# Altium footprint library SiLPA.PcbLib: 15 footprints
Each footprint in its own frame and in the unit in brackets; x right, y up, seen from the top. Pads: shape width x height; smd on the part's side, far side on the other; paste and mask are expansions set on the pad; w line width, h text height; cw(c..) or ccw(c..) is an arc to the next point about the centre after c.
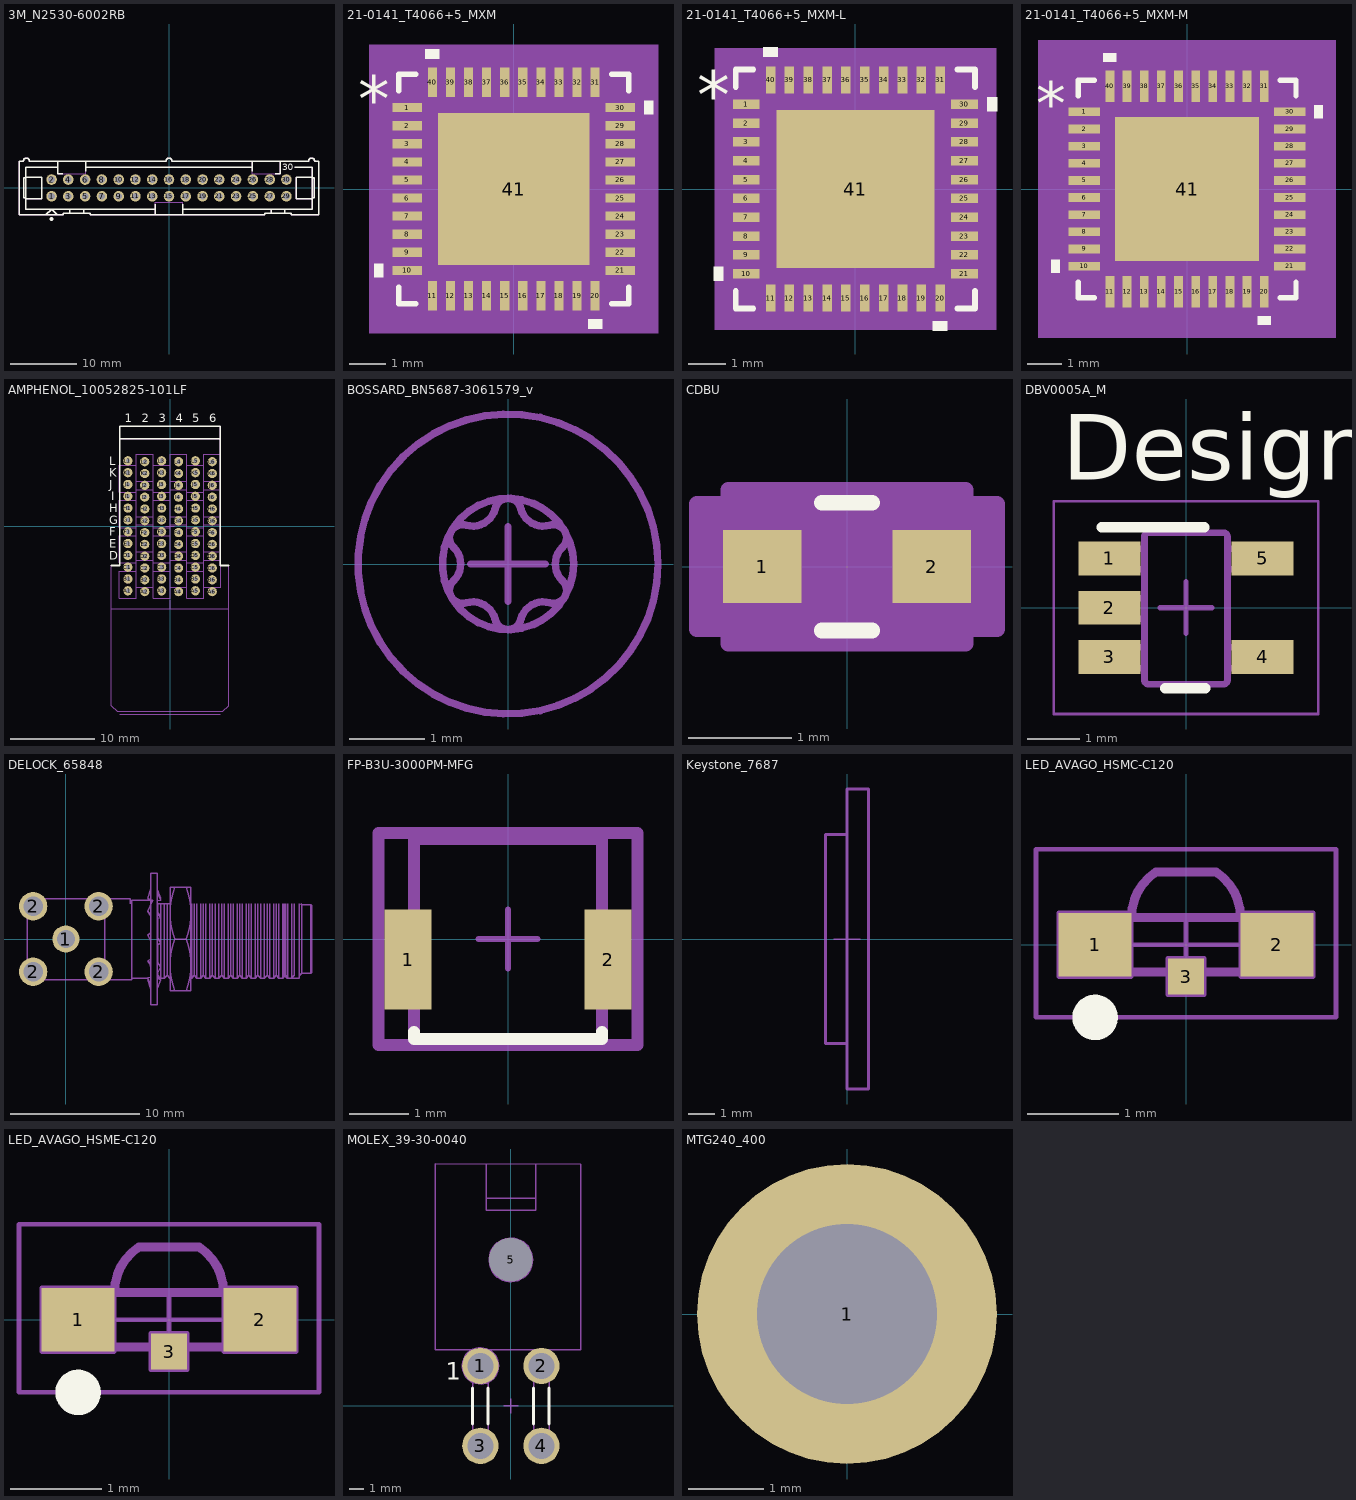
[diagram p0: the footprints below, top view; thin cyan lines are the x and y axes]

## 3M_N2530-6002RB [mm]
pads (30):
  round 1.6 hole 1: 1(-17.78,-1.27) 2(-17.78,1.27) 3(-15.24,-1.27) 4(-15.24,1.27) 5(-12.7,-1.27) 6(-12.7,1.27) 7(-10.16,-1.27) 8(-10.16,1.27) 9(-7.62,-1.27) 10(-7.62,1.27) 11(-5.08,-1.27) 12(-5.08,1.27) 13(-2.54,-1.27) 14(-2.54,1.27) 15(0,-1.27) 16(0,1.27) 17(2.54,-1.27) 18(2.54,1.27) 19(5.08,-1.27) 20(5.08,1.27) 21(7.62,-1.27) 22(7.62,1.27) 23(10.16,-1.27) 24(10.16,1.27) 25(12.7,-1.27) 26(12.7,1.27) 27(15.24,-1.27) 28(15.24,1.27) 29(17.78,-1.27) 30(17.78,1.27)
Top Overlay:
  circle w0.3: c-17.78,-4.699 r0.15
  lines w0.2: -21.692,-1.603 -19.279,-1.603 -19.279,1.603 -21.692,1.603 ; -21.692,-1.524 -21.996,-1.524 -21.996,1.524 -21.692,1.524 ; -18.644,-4.064 -17.78,-3.2 -16.916,-4.064 ; -16.828,3.15 -21.692,3.15 -21.692,-3.2 -2.096,-3.2 ; -16.828,4.064 -16.828,2.159 -16.119,2.159 ; -15.011,-3.835 -15.011,-3.2 ; -12.929,-3.835 -12.929,-3.2 ; -12.637,2.518 -12.637,4.064 ; -12.637,3.15 12.637,3.15 ; -2.096,-4.064 -2.096,-2.438 ; 2.095,-4.064 2.095,-2.438 ; 2.095,-3.2 21.692,-3.2 21.692,3.15 19.05,3.15 ; 12.637,2.518 12.637,4.064 ; 15.469,-3.835 15.469,-3.2 ; 16.119,2.159 16.828,2.159 16.828,4.064 ; 17.551,-3.835 17.551,-3.2 ; 21.692,-1.603 19.279,-1.603 19.279,1.603 21.692,1.603 ; 21.692,-1.524 21.996,-1.524 21.996,1.524 21.692,1.524 ; -22.708,-4.064 -22.708,4.064 -22.047,4.064 cw(c-21.59,4.064) -21.133,4.064 -0.457,4.064 cw(c0,4.064) 0.457,4.064 21.133,4.064 cw(c21.59,4.064) 22.047,4.064 22.708,4.064 22.708,-4.064 18.542,-4.064 18.542,-3.835 14.478,-3.835 14.478,-4.064 -11.938,-4.064 -11.938,-3.835 -16.002,-3.835 -16.002,-4.064 -22.708,-4.064
  text "30" at 17.145,2.667 h1.02
Mechanical 14:
  lines w0.1: -21.692,-1.603 -19.279,-1.603 -19.279,1.603 -21.692,1.603 ; -21.692,-1.524 -21.996,-1.524 -21.996,1.524 -21.692,1.524 ; -18.644,-4.064 -17.78,-3.2 -16.916,-4.064 ; -16.828,3.15 -21.692,3.15 -21.692,-3.2 -2.096,-3.2 ; -16.828,4.064 -16.828,2.159 -12.637,2.159 -12.637,4.064 ; -15.011,-3.835 -15.011,-3.2 ; -12.929,-3.835 -12.929,-3.2 ; -12.637,3.15 12.637,3.15 ; -2.096,-4.064 -2.096,-2.159 2.095,-2.159 2.095,-4.064 ; 2.095,-3.2 21.692,-3.2 21.692,3.15 19.05,3.15 ; 12.637,4.064 12.637,2.159 16.828,2.159 16.828,4.064 ; 15.469,-3.835 15.469,-3.2 ; 17.551,-3.835 17.551,-3.2 ; 21.692,-1.603 19.279,-1.603 19.279,1.603 21.692,1.603 ; 21.692,-1.524 21.996,-1.524 21.996,1.524 21.692,1.524 ; -22.708,-4.064 -22.708,4.064 -22.047,4.064 cw(c-21.59,4.064) -21.133,4.064 -0.457,4.064 cw(c0,4.064) 0.457,4.064 21.133,4.064 cw(c21.59,4.064) 22.047,4.064 22.708,4.064 22.708,-4.064 18.542,-4.064 18.542,-3.835 14.478,-3.835 14.478,-4.064 -11.938,-4.064 -11.938,-3.835 -16.002,-3.835 -16.002,-4.064 -22.708,-4.064
  text "30" at 17.145,2.667 h1.02
3D body "3M_N2530-6002RB.stp": height 9.91, standoff -2.84, extent -22.707,-4.115 22.708,4.521

## 21-0141_T4066+5_MXM [mil]
pads (41):
  rect 32x10 smd paste+0 mask+0: 1(-116,88.58) 2(-116,68.9) 3(-116,49.21) 4(-116,29.53) 5(-116,9.84) 6(-116,-9.84) 7(-116,-29.53) 8(-116,-49.21) 9(-116,-68.9) 10(-116,-88.58) 21(116,-88.58) 22(116,-68.9) 23(116,-49.21) 24(116,-29.53) 25(116,-9.84) 26(116,9.84) 27(116,29.53) 28(116,49.21) 29(116,68.9) 30(116,88.58)
  rect 10x32 smd paste+0 mask+0: 11(-88.58,-116) 12(-68.9,-116) 13(-49.21,-116) 14(-29.53,-116) 15(-9.84,-116) 16(9.84,-116) 17(29.53,-116) 18(49.21,-116) 19(68.9,-116) 20(88.58,-116) 31(88.58,116) 32(68.9,116) 33(49.21,116) 34(29.53,116) 35(9.84,116) 36(-9.84,116) 37(-29.53,116) 38(-49.21,116) 39(-68.9,116) 40(-88.58,116)
  rect 165x165 smd paste-82 mask+0: 41(0,0)
Top Overlay:
  region: -142,-81.08 -152,-81.08 -152,-96.08 -142,-96.08
  region: 96.08,-142 81.08,-142 81.08,-152 96.08,-152
  region: 142,96.08 152,96.08 152,81.08 142,81.08
  region: -81.08,142 -96.08,142 -96.08,152 -81.08,152
  lines w6: -125,-106.68 -125,-125 -106.68,-125 ; -125,106.68 -125,125 -106.68,125 ; 106.68,-125 125,-125 125,-106.68 ; 106.68,125 125,125 125,106.68
  text "*" at -169.5,73.43 h50
Top Paste:
  region: -31.44,78.56 -78.56,78.56 -78.56,31.44 -31.44,31.44
  region: -31.44,23.56 -78.56,23.56 -78.56,-23.56 -31.44,-23.56
  region: -31.44,-31.44 -78.56,-31.44 -78.56,-78.56 -31.44,-78.56
  region: 23.56,78.56 -23.56,78.56 -23.56,31.44 23.56,31.44
  region: 23.56,23.56 -23.56,23.56 -23.56,-23.56 23.56,-23.56
  region: 23.56,-31.44 -23.56,-31.44 -23.56,-78.56 23.56,-78.56
  region: 78.56,78.56 31.44,78.56 31.44,31.44 78.56,31.44
  region: 78.56,23.56 31.44,23.56 31.44,-23.56 78.56,-23.56
  region: 78.56,-31.44 31.44,-31.44 31.44,-78.56 78.56,-78.56
Mechanical 5:
  region: 157,-157 -157,-157 -157,157 157,157
Mechanical 13:
  lines w1: -120,70 -70,120 ; -120,-120 120,-120 120,120 -120,120 -120,-120 ; -120,-94.58 -120,-82.58 -120,-94.58 ; -120,-74.9 -120,-62.9 -120,-74.9 ; -120,-55.21 -120,-43.21 -120,-55.21 ; -120,-35.53 -120,-23.53 -120,-35.53 ; -120,-15.84 -120,-3.84 -120,-15.84 ; -120,3.84 -120,15.84 -120,3.84 ; -120,23.53 -120,35.53 -120,23.53 ; -120,43.21 -120,55.21 -120,43.21 ; -120,62.9 -120,74.9 -120,62.9 ; -120,82.58 -120,94.58 -120,82.58 ; -94.58,-120 -82.58,-120 -94.58,-120 ; -94.58,120 -82.58,120 -94.58,120 ; -74.9,-120 -62.9,-120 -74.9,-120 ; -74.9,120 -62.9,120 -74.9,120 ; -55.21,-120 -43.21,-120 -55.21,-120 ; -55.21,120 -43.21,120 -55.21,120 ; -35.53,-120 -23.53,-120 -35.53,-120 ; -35.53,120 -23.53,120 -35.53,120 ; -15.84,-120 -3.84,-120 -15.84,-120 ; -15.84,120 -3.84,120 -15.84,120 ; 3.84,-120 15.84,-120 3.84,-120 ; 3.84,120 15.84,120 3.84,120 ; 23.53,-120 35.53,-120 23.53,-120 ; 23.53,120 35.53,120 23.53,120 ; 43.21,-120 55.21,-120 43.21,-120 ; 43.21,120 55.21,120 43.21,120 ; 62.9,-120 74.9,-120 62.9,-120 ; 62.9,120 74.9,120 62.9,120 ; 82.58,-120 94.58,-120 82.58,-120 ; 82.58,120 94.58,120 82.58,120 ; 120,-94.58 120,-82.58 120,-94.58 ; 120,-74.9 120,-62.9 120,-74.9 ; 120,-55.21 120,-43.21 120,-55.21 ; 120,-35.53 120,-23.53 120,-35.53 ; 120,-15.84 120,-3.84 120,-15.84 ; 120,3.84 120,15.84 120,3.84 ; 120,23.53 120,35.53 120,23.53 ; 120,43.21 120,55.21 120,43.21 ; 120,62.9 120,74.9 120,62.9 ; 120,82.58 120,94.58 120,82.58
  text "*" at -112.5,73.43 h50
Mechanical 15:
  region: -103.58,-130 -130,-130 -130,-103.58 -142,-103.58 -142,103.58 -130,103.58 -130,130 -103.58,130 -103.58,142 103.58,142 103.58,130 130,130 130,103.58 142,103.58 142,-103.58 130,-103.58 130,-130 103.58,-130 103.58,-142 -103.58,-142
  lines w6: -142,-103.58 -130,-103.58 -130,-130 -103.58,-130 -103.58,-142 103.58,-142 103.58,-130 130,-130 130,-103.58 142,-103.58 142,103.58 130,103.58 130,130 103.58,130 103.58,142 -103.58,142 -103.58,130 -130,130 -130,103.58 -142,103.58 -142,-103.58
3D body "21-0141_T4066+5_MXM.step": height 32.09, standoff 0, extent -120,-120 120,120
3D body "21-0141_T4066+5_MXM.step": height 32.09, standoff 0, extent -120,-120 120,120

## 21-0141_T4066+5_MXM-L [mil]
pads (41):
  rect 28x10 smd paste+0 mask+0: 1(-114,88.58) 2(-114,68.9) 3(-114,49.21) 4(-114,29.53) 5(-114,9.84) 6(-114,-9.84) 7(-114,-29.53) 8(-114,-49.21) 9(-114,-68.9) 10(-114,-88.58) 21(114,-88.58) 22(114,-68.9) 23(114,-49.21) 24(114,-29.53) 25(114,-9.84) 26(114,9.84) 27(114,29.53) 28(114,49.21) 29(114,68.9) 30(114,88.58)
  rect 10x28 smd paste+0 mask+0: 11(-88.58,-114) 12(-68.9,-114) 13(-49.21,-114) 14(-29.53,-114) 15(-9.84,-114) 16(9.84,-114) 17(29.53,-114) 18(49.21,-114) 19(68.9,-114) 20(88.58,-114) 31(88.58,114) 32(68.9,114) 33(49.21,114) 34(29.53,114) 35(9.84,114) 36(-9.84,114) 37(-29.53,114) 38(-49.21,114) 39(-68.9,114) 40(-88.58,114)
  rect 165x165 smd paste-82 mask+0: 41(0,0)
Top Overlay:
  region: -81.08,138 -96.08,138 -96.08,148 -81.08,148
  region: 138,96.08 148,96.08 148,81.08 138,81.08
  region: 96.08,-138 81.08,-138 81.08,-148 96.08,-148
  region: -138,-81.08 -148,-81.08 -148,-96.08 -138,-96.08
  lines w6: -125,-106.68 -125,-125 -106.68,-125 ; -125,106.68 -125,125 -106.68,125 ; 106.68,-125 125,-125 125,-106.68 ; 106.68,125 125,125 125,106.68
  text "*" at -165.5,73.43 h50
Top Paste:
  region: 78.56,-31.44 31.44,-31.44 31.44,-78.56 78.56,-78.56
  region: 78.56,23.56 31.44,23.56 31.44,-23.56 78.56,-23.56
  region: 78.56,78.56 31.44,78.56 31.44,31.44 78.56,31.44
  region: 23.56,-31.44 -23.56,-31.44 -23.56,-78.56 23.56,-78.56
  region: 23.56,23.56 -23.56,23.56 -23.56,-23.56 23.56,-23.56
  region: 23.56,78.56 -23.56,78.56 -23.56,31.44 23.56,31.44
  region: -31.44,-31.44 -78.56,-31.44 -78.56,-78.56 -31.44,-78.56
  region: -31.44,23.56 -78.56,23.56 -78.56,-23.56 -31.44,-23.56
  region: -31.44,78.56 -78.56,78.56 -78.56,31.44 -31.44,31.44
Mechanical 5:
  region: 147,-147 -147,-147 -147,147 147,147
Mechanical 13:
  lines w1: -120,70 -70,120 ; -120,-120 -120,120 120,120 120,-120 -120,-120 ; -120,-94.58 -120,-82.58 -120,-94.58 ; -120,-74.9 -120,-62.9 -120,-74.9 ; -120,-55.21 -120,-43.21 -120,-55.21 ; -120,-35.53 -120,-23.53 -120,-35.53 ; -120,-15.84 -120,-3.84 -120,-15.84 ; -120,3.84 -120,15.84 -120,3.84 ; -120,23.53 -120,35.53 -120,23.53 ; -120,43.21 -120,55.21 -120,43.21 ; -120,62.9 -120,74.9 -120,62.9 ; -120,82.58 -120,94.58 -120,82.58 ; -94.58,-120 -82.58,-120 -94.58,-120 ; -94.58,120 -82.58,120 -94.58,120 ; -74.9,-120 -62.9,-120 -74.9,-120 ; -74.9,120 -62.9,120 -74.9,120 ; -55.21,-120 -43.21,-120 -55.21,-120 ; -55.21,120 -43.21,120 -55.21,120 ; -35.53,-120 -23.53,-120 -35.53,-120 ; -35.53,120 -23.53,120 -35.53,120 ; -15.84,-120 -3.84,-120 -15.84,-120 ; -15.84,120 -3.84,120 -15.84,120 ; 3.84,-120 15.84,-120 3.84,-120 ; 3.84,120 15.84,120 3.84,120 ; 23.53,-120 35.53,-120 23.53,-120 ; 23.53,120 35.53,120 23.53,120 ; 43.21,-120 55.21,-120 43.21,-120 ; 43.21,120 55.21,120 43.21,120 ; 62.9,-120 74.9,-120 62.9,-120 ; 62.9,120 74.9,120 62.9,120 ; 82.58,-120 94.58,-120 82.58,-120 ; 82.58,120 94.58,120 82.58,120 ; 120,-94.58 120,-82.58 120,-94.58 ; 120,-74.9 120,-62.9 120,-74.9 ; 120,-55.21 120,-43.21 120,-55.21 ; 120,-35.53 120,-23.53 120,-35.53 ; 120,-15.84 120,-3.84 120,-15.84 ; 120,3.84 120,15.84 120,3.84 ; 120,23.53 120,35.53 120,23.53 ; 120,43.21 120,55.21 120,43.21 ; 120,62.9 120,74.9 120,62.9 ; 120,82.58 120,94.58 120,82.58
  text "*" at -112.5,73.43 h50
Mechanical 15:
  region: -97.58,-124 -124,-124 -124,-97.58 -132,-97.58 -132,97.58 -124,97.58 -124,124 -97.58,124 -97.58,132 97.58,132 97.58,124 124,124 124,97.58 132,97.58 132,-97.58 124,-97.58 124,-124 97.58,-124 97.58,-132 -97.58,-132
  lines w6: -132,-97.58 -132,97.58 -124,97.58 -124,124 -97.58,124 -97.58,132 97.58,132 97.58,124 124,124 124,97.58 132,97.58 132,-97.58 124,-97.58 124,-124 97.58,-124 97.58,-132 -97.58,-132 -97.58,-124 -124,-124 -124,-97.58 -132,-97.58
3D body "21-0141_T4066+5_MXM.step": height 32.09, standoff 0, extent -120,-120 120,120

## 21-0141_T4066+5_MXM-M [mil]
pads (41):
  rect 36x10 smd paste+0 mask+0: 1(-118,88.58) 2(-118,68.9) 3(-118,49.21) 4(-118,29.53) 5(-118,9.84) 6(-118,-9.84) 7(-118,-29.53) 8(-118,-49.21) 9(-118,-68.9) 10(-118,-88.58) 21(118,-88.58) 22(118,-68.9) 23(118,-49.21) 24(118,-29.53) 25(118,-9.84) 26(118,9.84) 27(118,29.53) 28(118,49.21) 29(118,68.9) 30(118,88.58)
  rect 10x36 smd paste+0 mask+0: 11(-88.58,-118) 12(-68.9,-118) 13(-49.21,-118) 14(-29.53,-118) 15(-9.84,-118) 16(9.84,-118) 17(29.53,-118) 18(49.21,-118) 19(68.9,-118) 20(88.58,-118) 31(88.58,118) 32(68.9,118) 33(49.21,118) 34(29.53,118) 35(9.84,118) 36(-9.84,118) 37(-29.53,118) 38(-49.21,118) 39(-68.9,118) 40(-88.58,118)
  rect 165x165 smd paste-82 mask+0: 41(0,0)
Top Overlay:
  region: -81.08,146 -96.08,146 -96.08,156 -81.08,156
  region: 146,96.08 156,96.08 156,81.08 146,81.08
  region: 96.08,-146 81.08,-146 81.08,-156 96.08,-156
  region: -146,-81.08 -156,-81.08 -156,-96.08 -146,-96.08
  lines w6: -125,-106.68 -125,-125 -106.68,-125 ; -125,106.68 -125,125 -106.68,125 ; 106.68,-125 125,-125 125,-106.68 ; 106.68,125 125,125 125,106.68
  text "*" at -173.5,73.43 h50
Top Paste:
  region: 78.56,-31.44 31.44,-31.44 31.44,-78.56 78.56,-78.56
  region: 78.56,23.56 31.44,23.56 31.44,-23.56 78.56,-23.56
  region: 78.56,78.56 31.44,78.56 31.44,31.44 78.56,31.44
  region: 23.56,-31.44 -23.56,-31.44 -23.56,-78.56 23.56,-78.56
  region: 23.56,23.56 -23.56,23.56 -23.56,-23.56 23.56,-23.56
  region: 23.56,78.56 -23.56,78.56 -23.56,31.44 23.56,31.44
  region: -31.44,-31.44 -78.56,-31.44 -78.56,-78.56 -31.44,-78.56
  region: -31.44,23.56 -78.56,23.56 -78.56,-23.56 -31.44,-23.56
  region: -31.44,78.56 -78.56,78.56 -78.56,31.44 -31.44,31.44
Mechanical 5:
  region: 171,-171 -171,-171 -171,171 171,171
Mechanical 13:
  lines w1: -120,70 -70,120 ; -120,-120 -120,120 120,120 120,-120 -120,-120 ; -120,-94.58 -120,-82.58 -120,-94.58 ; -120,-74.9 -120,-62.9 -120,-74.9 ; -120,-55.21 -120,-43.21 -120,-55.21 ; -120,-35.53 -120,-23.53 -120,-35.53 ; -120,-15.84 -120,-3.84 -120,-15.84 ; -120,3.84 -120,15.84 -120,3.84 ; -120,23.53 -120,35.53 -120,23.53 ; -120,43.21 -120,55.21 -120,43.21 ; -120,62.9 -120,74.9 -120,62.9 ; -120,82.58 -120,94.58 -120,82.58 ; -94.58,-120 -82.58,-120 -94.58,-120 ; -94.58,120 -82.58,120 -94.58,120 ; -74.9,-120 -62.9,-120 -74.9,-120 ; -74.9,120 -62.9,120 -74.9,120 ; -55.21,-120 -43.21,-120 -55.21,-120 ; -55.21,120 -43.21,120 -55.21,120 ; -35.53,-120 -23.53,-120 -35.53,-120 ; -35.53,120 -23.53,120 -35.53,120 ; -15.84,-120 -3.84,-120 -15.84,-120 ; -15.84,120 -3.84,120 -15.84,120 ; 3.84,-120 15.84,-120 3.84,-120 ; 3.84,120 15.84,120 3.84,120 ; 23.53,-120 35.53,-120 23.53,-120 ; 23.53,120 35.53,120 23.53,120 ; 43.21,-120 55.21,-120 43.21,-120 ; 43.21,120 55.21,120 43.21,120 ; 62.9,-120 74.9,-120 62.9,-120 ; 62.9,120 74.9,120 62.9,120 ; 82.58,-120 94.58,-120 82.58,-120 ; 82.58,120 94.58,120 82.58,120 ; 120,-94.58 120,-82.58 120,-94.58 ; 120,-74.9 120,-62.9 120,-74.9 ; 120,-55.21 120,-43.21 120,-55.21 ; 120,-35.53 120,-23.53 120,-35.53 ; 120,-15.84 120,-3.84 120,-15.84 ; 120,3.84 120,15.84 120,3.84 ; 120,23.53 120,35.53 120,23.53 ; 120,43.21 120,55.21 120,43.21 ; 120,62.9 120,74.9 120,62.9 ; 120,82.58 120,94.58 120,82.58
  text "*" at -112.5,73.43 h50
Mechanical 15:
  region: -113.58,-140 -140,-140 -140,-113.58 -156,-113.58 -156,113.58 -140,113.58 -140,140 -113.58,140 -113.58,156 113.58,156 113.58,140 140,140 140,113.58 156,113.58 156,-113.58 140,-113.58 140,-140 113.58,-140 113.58,-156 -113.58,-156
  lines w6: -156,-113.58 -156,113.58 -140,113.58 -140,140 -113.58,140 -113.58,156 113.58,156 113.58,140 140,140 140,113.58 156,113.58 156,-113.58 140,-113.58 140,-140 113.58,-140 113.58,-156 -113.58,-156 -113.58,-140 -140,-140 -140,-113.58 -156,-113.58
3D body "21-0141_T4066+5_MXM.step": height 32.09, standoff 0, extent -120,-120 120,120

## AMPHENOL_10052825-101LF [mm]
pads (72):
  round 1.1 hole 0.5: A1(-5,-7.65) A2(-3,-7.75) A3(-1,-7.65) A4(1,-7.75) A5(3,-7.65) A6(5,-7.75) B1(-5,-6.25) B2(-3,-6.35) B3(-1,-6.25) B4(1,-6.35) B5(3,-6.25) B6(5,-6.35) C1(-5,-4.85) C2(-3,-4.95) C3(-1,-4.85) C4(1,-4.95) C5(3,-4.85) C6(5,-4.95) D1(-5,-3.45) D2(-3,-3.55) D3(-1,-3.45) D4(1,-3.55) D5(3,-3.45) D6(5,-3.55) E1(-5,-2.05) E2(-3,-2.15) E3(-1,-2.05) E4(1,-2.15) E5(3,-2.05) E6(5,-2.15) F1(-5,-0.65) F2(-3,-0.75) F3(-1,-0.65) F4(1,-0.75) F5(3,-0.65) F6(5,-0.75) G1(-5,0.75) G2(-3,0.65) G3(-1,0.75) G4(1,0.65) G5(3,0.75) G6(5,0.65) H1(-5,2.15) H2(-3,2.05) H3(-1,2.15) H4(1,2.05) H5(3,2.15) H6(5,2.05) I1(-5,3.55) I2(-3,3.45) I3(-1,3.55) I4(1,3.45) I5(3,3.55) I6(5,3.45) J1(-5,4.95) J2(-3,4.85) J3(-1,4.95) J4(1,4.85) J5(3,4.95) J6(5,4.85) K1(-5,6.35) K2(-3,6.25) K3(-1,6.35) K4(1,6.25) K5(3,6.35) K6(5,6.25) L1(-5,7.75) L2(-3,7.65) L3(-1,7.75) L4(1,7.65) L5(3,7.75) L6(5,7.65)
Top Overlay:
  lines w0.2: -6.95,-4.65 -5.95,-4.65 -5.95,11.85 5.95,11.85 5.95,-4.65 6.95,-4.65 ; -5.95,10.35 5.95,10.35
  text "6" at 4.65,12.3 h1
  text "5" at 2.65,12.3 h1
  text "4" at 0.65,12.3 h1
  text "3" at -1.35,12.3 h1
  text "2" at -3.35,12.3 h1
  text "1" at -5.35,12.3 h1
  text "L" at -7.2,7.25 h1
  text "K" at -7.2,5.85 h1
  text "J" at -7.2,4.45 h1
  text "I" at -6.95,3.05 h1
  text "H" at -7.2,1.65 h1
  text "G" at -7.2,0.25 h1
  text "F" at -7.2,-1.15 h1
  text "E" at -7.2,-2.55 h1
  text "D" at -7.2,-3.95 h1
Mechanical 8:
  drawing of 248 lines, arcs and shapes, not listed
  text "Edge of Daugher Card" at -3.225,-10.5 h0.5
  text "Top Surface of Mother Board" at -4.375,-22 h0.5
Mechanical 14:
  lines w0.1: -6.95,-9.75 -6.25,-9.75 ; -5.95,10.35 5.95,10.35 ; -5.75,-9.75 -5.25,-9.75 ; -4.75,-9.75 -4.25,-9.75 ; -3.75,-9.75 -3.25,-9.75 ; -2.75,-9.75 -2.25,-9.75 ; -1.75,-9.75 -1.25,-9.75 ; -0.75,-9.75 -0.25,-9.75 ; 0.25,-9.75 0.75,-9.75 ; 1.25,-9.75 1.75,-9.75 ; 2.25,-9.75 2.75,-9.75 ; 3.25,-9.75 3.75,-9.75 ; 4.25,-9.75 4.75,-9.75 ; 5.25,-9.75 5.75,-9.75 ; 6.25,-9.75 6.95,-9.75 ; -6.95,-21.25 -6.25,-21.95 6.25,-21.95 6.95,-21.25 6.95,-4.65 5.95,-4.65 5.95,11.85 -5.95,11.85 -5.95,-4.65 -6.95,-4.65 -6.95,-21.25
  text "6" at 4.65,12.3 h1
  text "5" at 2.65,12.3 h1
  text "4" at 0.65,12.3 h1
  text "3" at -1.35,12.3 h1
  text "2" at -3.35,12.3 h1
  text "1" at -5.35,12.3 h1
  text "L" at -7.2,7.25 h1
  text "K" at -7.2,5.85 h1
  text "J" at -7.2,4.45 h1
  text "I" at -6.95,3.05 h1
  text "H" at -7.2,1.65 h1
  text "G" at -7.2,0.25 h1
  text "F" at -7.2,-1.15 h1
  text "E" at -7.2,-2.55 h1
  text "D" at -7.2,-3.95 h1
  text "C" at -8.2,-5.35 h1
  text "B" at -8.2,-6.75 h1
  text "A" at -8.2,-8.15 h1
Drill Drawing:
  lines w0.1: -6,-8.75 -6,8.75 6,8.75 6,-8.75 -6,-8.75
  text "Diam. 0.5mm +/-0.05" at 9,-8.4 h1
  text "PRESS-FIT TECHNOLOGY" at 7.5,-8.4 h1
3D body "AMPHENOL_10052825-101LF.stp": height 15.25, standoff -4.45, extent -6.95,-21.95 6.95,11.85

## BOSSARD_BN5687-3061579_v [mm] "M2 L=4mm Hexalobular Socket Pan Head Screw, Fully Threaded - Stainless Steel A2"
height 5.6
Mechanical 8:
  lines w0.1: -0.5,0 0,0 ; 0,-0.5 0,0 ; 0,0.5 0,0 ; 0.5,0 0,0
Mechanical 14:
  circle w0.1: c0,0 r0.875
  circle w0.1: c0,0 r2
  lines w0.1: -0.726,-0.223 ccw(c-0.937,0) -0.726,0.223 cw(c-0.606,0.35) -0.556,0.518 ccw(c-0.468,0.811) -0.17,0.74 cw(c0,0.7) 0.17,0.74 ccw(c0.468,0.811) 0.556,0.518 cw(c0.606,0.35) 0.726,0.223 ccw(c0.937,0) 0.726,-0.223 cw(c0.606,-0.35) 0.556,-0.518 ccw(c0.468,-0.811) 0.17,-0.74 cw(c0,-0.7) -0.17,-0.74 ccw(c-0.468,-0.811) -0.556,-0.518 cw(c-0.606,-0.35) -0.726,-0.223
3D body "BOSSARD_BN5687-3061579_v.stp": height 1.6, standoff -4, extent -2,-2 2,2

## CDBU [mil]
pads (2):
  rect 30x28 smd paste+0 mask+0: 1(-32.5,0) 2(32.5,0)
Top Overlay:
  lines w6: -9.67,-24.5 9.67,-24.5 ; -9.67,24.5 9.67,24.5
Mechanical 13:
  lines w0: -12,19.5 ccw(c0,19.5) 12,19.5
  lines w1: -35.5,-19.5 -35.5,19.5 35.5,19.5 35.5,-19.5 -35.5,-19.5
Mechanical 15:
  region: -45.5,-24 -57.5,-24 -57.5,24 -45.5,24 -45.5,29.5 45.5,29.5 45.5,24 57.5,24 57.5,-24 45.5,-24 45.5,-29.5 -45.5,-29.5
  lines w6: -57.5,-24 -45.5,-24 -45.5,-29.5 45.5,-29.5 45.5,-24 57.5,-24 57.5,24 45.5,24 45.5,29.5 -45.5,29.5 -45.5,24 -57.5,24 -57.5,-24
3D body "CDBU.step": height 33.11, standoff 0, extent -35.51,-19.49 35.51,19.49

## DBV0005A_M [mm]
pads (5):
  rect 1.2x0.65 smd paste+0 mask+0.051: 1(-1.475,0.95) 2(-1.475,0) 3(-1.475,-0.95) 4(1.475,-0.95) 5(1.475,0.95)
Top Overlay:
  lines w0.2: -1.625,1.55 0.35,1.55 ; -0.4,-1.55 0.375,-1.55
  text "Designator9" at -2.388,2.464 h1.27
Mechanical 13:
  lines w0.127: -0.801,1.371 cw(c-0.725,1.37) -0.725,1.446 ; -0.801,1.37 -0.801,1.371 ; -0.801,1.37 -0.801,-1.399 -0.801,-1.4 ccw(c-0.725,-1.399) -0.725,-1.475 ; -0.725,-1.475 0.723,-1.475 0.724,-1.475 ccw(c0.723,-1.399) 0.799,-1.4 0.799,-1.399 0.799,1.37 ; -0.725,-1.475 -0.725,-1.475 ; -0.725,1.446 -0.725,1.446 ; -0.725,1.446 0.723,1.446 0.724,1.446 cw(c0.723,1.37) 0.799,1.371 ; 0.799,1.37 0.799,1.371 ; -1.423,-1.167 -1.423,-0.767 -1.199,-0.767 -1.105,-0.767 -1.088,-0.767 -0.835,-0.767 -0.801,-0.767 -0.801,-1.167 -0.835,-1.167 -1.088,-1.167 -1.105,-1.167 -1.199,-1.167 -1.423,-1.167 ; -1.423,-0.215 -1.423,0.186 -1.199,0.186 -1.105,0.186 -1.088,0.186 -0.835,0.186 -0.801,0.186 -0.801,-0.215 -0.835,-0.215 -1.088,-0.215 -1.105,-0.215 -1.199,-0.215 -1.423,-0.215 ; -1.423,0.738 -1.423,1.138 -1.199,1.138 -1.105,1.138 -1.088,1.138 -0.835,1.138 -0.801,1.138 -0.801,0.738 -0.835,0.738 -1.088,0.738 -1.105,0.738 -1.199,0.738 -1.423,0.738 ; 0.799,-1.167 0.834,-1.167 1.087,-1.167 1.103,-1.167 1.198,-1.167 1.422,-1.167 1.422,-0.767 1.198,-0.767 1.103,-0.767 1.087,-0.767 0.834,-0.767 0.799,-0.767 0.799,-1.167 ; 0.799,0.738 0.834,0.738 1.087,0.738 1.103,0.738 1.198,0.738 1.422,0.738 1.422,1.138 1.198,1.138 1.103,1.138 1.087,1.138 0.834,1.138 0.799,1.138 0.799,0.738
Mechanical 15:
  lines w0.05: -2.55,-2.05 2.55,-2.05 2.55,2.05 -2.55,2.05 -2.55,-2.05
  lines w0.1: -0.5,0 0.5,0 ; 0,-0.5 0,0.5
3D body "DBV0005A.stp": height 1.2, standoff 0, extent -1.4,-1.45 1.4,1.45

## DELOCK_65848 [mm]
pads (5):
  round 2.1 hole 1.4: 1(0,0)
  round 2.2 hole 1.5: 2(-2.54,-2.54) 2(-2.54,2.54) 2(2.54,-2.54) 2(2.54,2.54)
Mechanical 8:
  lines w0.1: -3.2,-2.03 -2.03,-2.03 ; -3.2,2.03 -2.03,2.03 ; -3.04,-2.54 -2.54,-2.54 ; -3.04,2.54 -2.54,2.54 ; -2.54,-3.04 -2.54,-2.54 ; -2.54,-2.04 -2.54,-2.54 ; -2.54,2.04 -2.54,2.54 ; -2.54,3.04 -2.54,2.54 ; -2.04,-2.54 -2.54,-2.54 ; -2.04,2.54 -2.54,2.54 ; -0.5,0 0,0 ; 0,-0.5 0,0 ; 0,0.5 0,0 ; 0.5,0 0,0 ; 2.03,2.03 3,2.03 ; 2.04,-2.54 2.54,-2.54 ; 2.04,2.54 2.54,2.54 ; 2.54,-3.04 2.54,-2.54 ; 2.54,-2.04 2.54,-2.54 ; 2.54,2.04 2.54,2.54 ; 2.54,3.04 2.54,2.54 ; 3.04,-2.54 2.54,-2.54 ; 3.04,2.54 2.54,2.54
Mechanical 14:
  drawing of 155 lines, arcs and shapes, not listed
3D body "SMA_Delock_65848.step": height 9.15, standoff -2.99, extent -3.04,-3.174 18.96,3.094

## FP-B3U-3000PM-MFG [mm]
pads (2):
  rect 0.8x1.7 smd paste+0 mask+0: 1(-1.7,-0.35) 2(1.7,-0.35)
Top Overlay:
  lines w0.2: -1.6,-1.575 -1.6,-1.7 1.6,-1.7 1.6,-1.575
Top 3D Body:
  lines w0.2: -1.6,-1.7 1.6,-1.7 1.6,1.7 -1.6,1.7 -1.6,-1.7
Top Courtyard:
  lines w0.2: -2.2,-1.8 2.2,-1.8 2.2,1.8 -2.2,1.8 -2.2,-1.8
Top Assembly:
  lines w0.2: -2.2,-1.8 2.2,-1.8 2.2,1.8 -2.2,1.8 -2.2,-1.8
  text ".Designator" at 0,0 h1
Top Component Center:
  lines w0.1: -0.5,0 0.5,0 ; 0,-0.5 0,0.5
3D body "Switch_Omron_B3U-3000PM_eec.STEP": height 0.25, standoff 0, extent -2.2,-1.8 2.2,1.8

## Keystone_7687 [mm] "Polyphenylene Sulfide PPS Shoulder Washer"
height 8
Mechanical 8:
  lines w0.05: -0.5,0 0,0 ; 0,-0.5 0,0 ; 0,0.5 0,0 ; 0.5,0 0,0
Mechanical 14:
  lines w0.1: 0,-3.9 -0.8,-3.9 -0.8,3.9 0,3.9 ; 0,-5.6 0,5.6 0.8,5.6 0.8,-5.6 0,-5.6

## LED_AVAGO_HSMC-C120 [mm] "Red Chip LED, 2-Leads, Body 1.7x1.1mm, Side Emitting Package"
height 0.7
pads (3):
  rect 0.8x0.7 smd: 1(-1,0) 2(1,0)
  rect 0.4x0.4 smd: 3(0,-0.35)
Top Overlay:
  circle w0.25: c-1,-0.8 r0.125
Mechanical 8:
  lines w0.05: -1,0 1,0 ; 0,-0.35 0,0 ; -1.4,-0.35 -1.4,0.35 -0.6,0.35 -0.6,-0.35 -1.4,-0.35 ; -0.2,-0.55 0.2,-0.55 0.2,-0.15 -0.2,-0.15 -0.2,-0.55 ; 0.6,-0.35 0.6,0.35 1.4,0.35 1.4,-0.35 0.6,-0.35
Mechanical 14:
  lines w0.1: -0.6,0.3 cw(c0,0.3) -0.332,0.8 0.332,0.8 cw(c0,0.3) 0.6,0.3 ; -0.85,-0.3 0.85,-0.3 0.85,0.3 -0.85,0.3 -0.85,-0.3
Mechanical 15:
  lines w0.05: -0.3,0 0.3,0 ; 0,-0.3 0,0.3 ; -1.65,-0.8 -1.65,1.05 1.65,1.05 1.65,-0.8 -1.65,-0.8
3D body "LED_AVAGO_HSMC-C120.stp": height 0.7, standoff 0, extent -0.85,-0.3 0.85,0.8

## LED_AVAGO_HSME-C120 [mm] "Green Chip LED, 2-Leads, Body 1.7x1.1mm, Side Emitting Package"
height 0.7
pads (3):
  rect 0.8x0.7 smd: 1(-1,0) 2(1,0)
  rect 0.4x0.4 smd: 3(0,-0.35)
Top Overlay:
  circle w0.25: c-1,-0.8 r0.125
Mechanical 8:
  lines w0.05: -1,0 1,0 ; 0,-0.35 0,0 ; -1.4,-0.35 -1.4,0.35 -0.6,0.35 -0.6,-0.35 -1.4,-0.35 ; -0.2,-0.55 0.2,-0.55 0.2,-0.15 -0.2,-0.15 -0.2,-0.55 ; 0.6,-0.35 0.6,0.35 1.4,0.35 1.4,-0.35 0.6,-0.35
Mechanical 14:
  lines w0.1: -0.6,0.3 cw(c0,0.3) -0.332,0.8 0.332,0.8 cw(c0,0.3) 0.6,0.3 ; -0.85,-0.3 0.85,-0.3 0.85,0.3 -0.85,0.3 -0.85,-0.3
Mechanical 15:
  lines w0.05: -0.3,0 0.3,0 ; 0,-0.3 0,0.3 ; -1.65,-0.8 -1.65,1.05 1.65,1.05 1.65,-0.8 -1.65,-0.8
3D body "LED_AVAGO_HSME-C120.stp": height 0.7, standoff 0, extent -0.85,-0.3 0.85,0.8

## MOLEX_39-30-0040 [mm] "4.20mm (.165\") Pitch Mini-Fit Jr. Header, Dual Row, Right Angle with Snap-in Plastic Peg PCB Lock, 4 Circuits"
height 11.4
pads (5):
  round 2.5 hole 1.8: 1(-2.1,2.75) 2(2.1,2.75) 3(-2.1,-2.75) 4(2.1,-2.75)
  round 1 hole 3 unplated mask+1: 5(0,10.05)
Top Overlay:
  lines w0.2: -2.635,-1.242 -2.635,1.242 ; -1.565,-1.242 -1.565,1.242 ; 1.565,-1.242 1.565,1.242 ; 2.635,-1.242 2.635,1.242
  text "1" at -4.475,1.8 h1.2
Mechanical 8:
  circle w0.1: c-2.1,2.75 r1.25
  circle w0.1: c-2.1,2.75 r0.9
  circle w0.1: c0,10.05 r1.5
  lines w0.1: -2.6,-2.75 -2.1,-2.75 ; -2.6,2.75 -2.1,2.75 ; -2.1,-3.25 -2.1,-2.75 ; -2.1,-2.25 -2.1,-2.75 ; -2.1,2.25 -2.1,2.75 ; -2.1,3.25 -2.1,2.75 ; -1.6,-2.75 -2.1,-2.75 ; -1.6,2.75 -2.1,2.75 ; -0.5,0 0,0 ; -0.5,10.05 0,10.05 ; 0,-0.5 0,0 ; 0,0.5 0,0 ; 0,9.55 0,10.05 ; 0,10.55 0,10.05 ; 0.5,0 0,0 ; 0.5,10.05 0,10.05 ; 1.6,-2.75 2.1,-2.75 ; 1.6,2.75 2.1,2.75 ; 2.1,-3.25 2.1,-2.75 ; 2.1,-2.25 2.1,-2.75 ; 2.1,2.25 2.1,2.75 ; 2.1,3.25 2.1,2.75 ; 2.6,-2.75 2.1,-2.75 ; 2.6,2.75 2.1,2.75
Mechanical 14:
  lines w0.1: -2.635,3.85 -2.635,-3.285 -1.565,-3.285 -1.565,3.85 ; -1.7,14.3 1.7,14.3 ; -1.7,16.65 -1.7,13.478 1.7,13.478 1.7,16.65 ; 1.565,3.85 1.565,-3.285 2.635,-3.285 2.635,3.85 ; -5.2,3.85 -5.2,16.65 4.8,16.65 4.8,3.85 -5.2,3.85
  text "1" at -4.475,1.8 h1.2
3D body "MOLEX_39-30-0040.stp": height 11.4, standoff -3.6, extent -5.2,-3.285 4.8,16.65

## MTG240_400 [mm] "Plated Through Hole: Hole Dia.=2.4mm Pad Dia.=4.0mm"
pads (1):
  round 4 / inner round 3.5 / far side round 4 hole 2.4: 1(0,0)